# EAGLE library part PAM8403 (library 00_custom)
2Channel 3W DC 2.5-5V Class D Amplifier Board
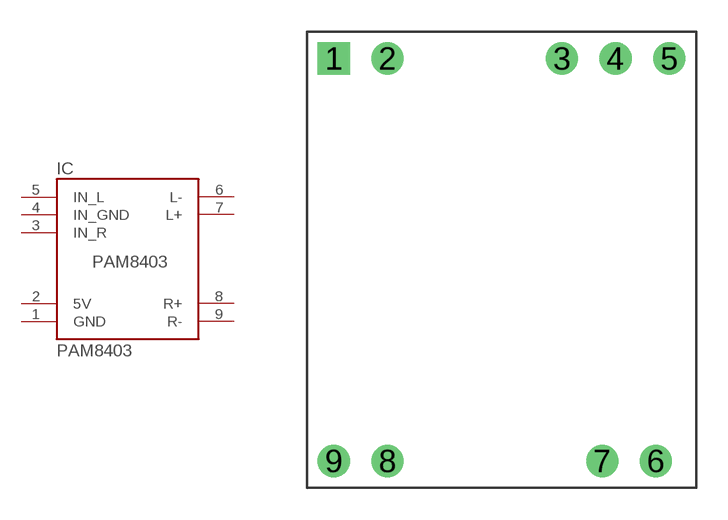
[diagram p1: symbol with the pads of PAM8403; footprint PAM8403]

Designator prefix IC

## PAM8403  [PAM8403]
1  GND  in
2  5V  in
3  IN_R  in
4  IN_GND  in
5  IN_L  in
6  L-  out
7  L+  out
8  R+  out
9  R-  out

## Footprint PAM8403 (pad centres in mm)
drill 1.016 square: 1 -7.62,8.89
drill 1.016: 2 -5.08,8.89; 3 3.175,8.89; 4 5.715,8.89; 5 8.255,8.89; 6 7.62,-10.16; 7 5.08,-10.16; 8 -5.08,-10.16; 9 -7.62,-10.16